# EAGLE library part HEADER8X2 (library custom)
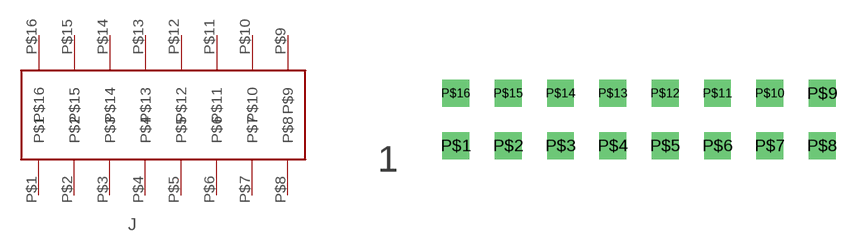
[diagram p16: symbol with the pads of HEADER_08X02; footprint HEADER_08X02]

Designator prefix J

## HEADER8X2  [HEADER_08X02]
P$1  P$1
P$2  P$2
P$3  P$3
P$4  P$4
P$5  P$5
P$6  P$6
P$7  P$7
P$8  P$8
P$9  P$9
P$10  P$10
P$11  P$11
P$12  P$12
P$13  P$13
P$14  P$14
P$15  P$15
P$16  P$16

## Footprint HEADER_08X02 (pad centres in mm)
drill 0.8 square: P$1 -8.89,-1.27; P$2 -6.35,-1.27; P$3 -3.81,-1.27; P$4 -1.27,-1.27; P$5 1.27,-1.27; P$6 3.81,-1.27; P$7 6.35,-1.27; P$8 8.89,-1.27; P$9 8.89,1.27; P$10 6.35,1.27; P$11 3.81,1.27; P$12 1.27,1.27; P$13 -1.27,1.27; P$14 -3.81,1.27; P$15 -6.35,1.27; P$16 -8.89,1.27